# EAGLE library part ICN2012 (library blinkinlabs)
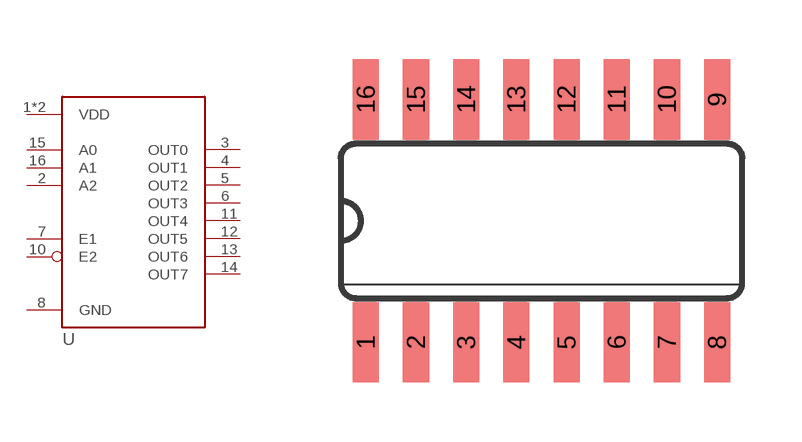
[diagram p12: symbol with the pads of SO16; footprint SO16]

Designator prefix -

## ICN2012  [SO16]
1  VDD  pwr
2  A2  in
3  OUT0  out
4  OUT1  out
5  OUT2  out
6  OUT3  out
7  E1  in
8  GND  pwr
9  VDD  pwr
10  E2  in
11  OUT4  out
12  OUT5  out
13  OUT6  out
14  OUT7  out
15  A0  in
16  A1  in

## Footprint SO16 (pad centres in mm)
Small Outline package 150 mil
smd 0.66 x 2.032: 1 -4.445,-3.073; 2 -3.175,-3.073; 3 -1.905,-3.073; 4 -0.635,-3.073; 5 0.635,-3.073; 6 1.905,-3.073; 7 3.175,-3.073; 8 4.445,-3.073; 9 4.445,3.073; 10 3.175,3.073; 11 1.905,3.073; 12 0.635,3.073; 13 -0.635,3.073; 14 -1.905,3.073; 15 -3.175,3.073; 16 -4.445,3.073